# Altium footprint library MiniSquidCtrl.PcbLib: 41 footprints (part 3 of 3)
Each footprint in its own frame and in the unit in brackets; x right, y up, seen from the top. Pads: shape width x height; smd on the part's side, far side on the other; paste and mask are expansions set on the pad; w line width, h text height; cw(c..) or ccw(c..) is an arc to the next point about the centre after c.
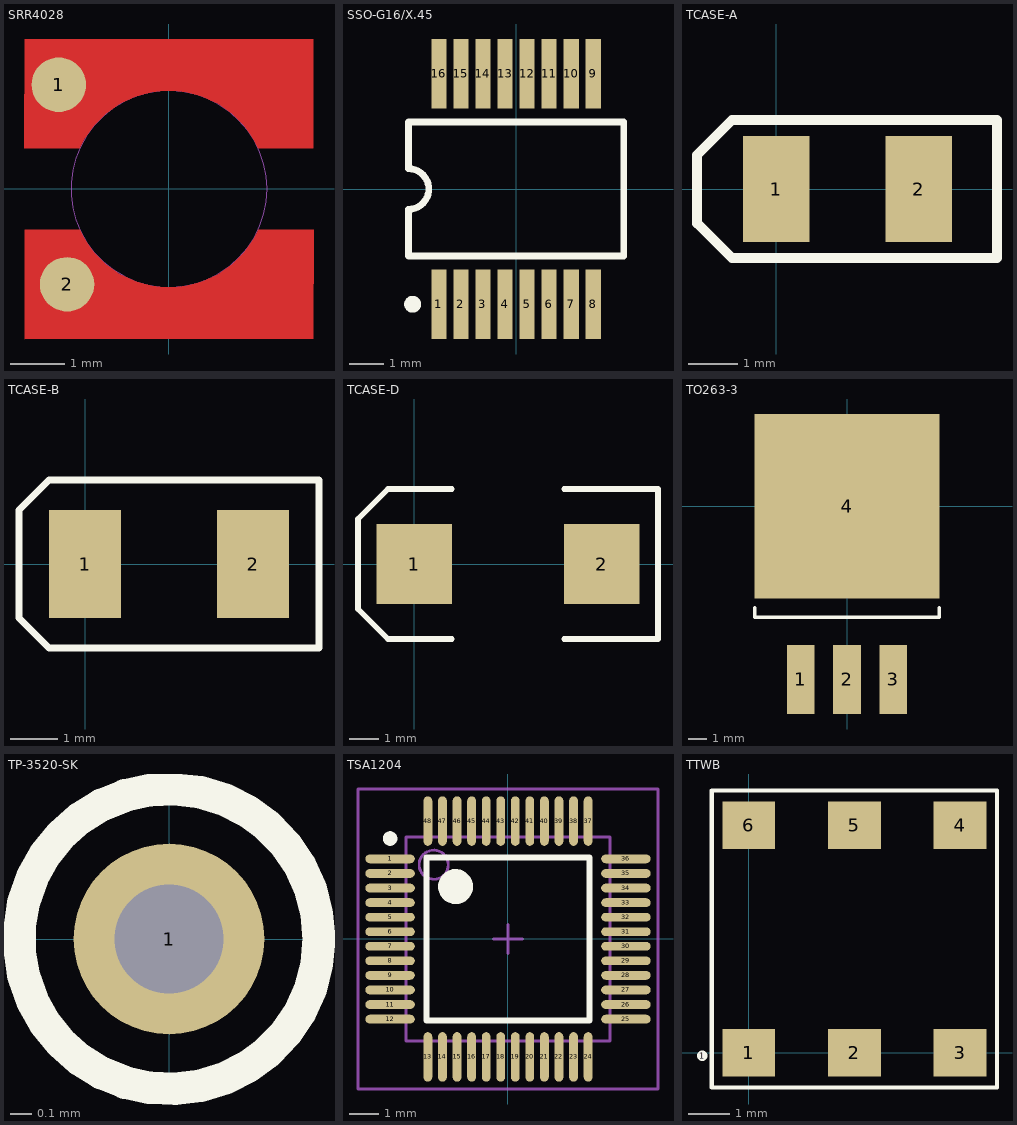
[diagram p2: the footprints below, top view; thin cyan lines are the x and y axes]

## SRR4028 [mm]
height 2.8
pads (2):
  round 1 smd: 1(-2.02,1.912) 2(-1.87,-1.749)
Top Layer:
  region: 1.8,-0.751 2.651,-0.751 2.65,-2.751 -2.649,-2.752 -2.648,-0.752 -1.8,-0.752 -1.636,-0.751 -1.558,-0.901 -1.474,-1.033 -1.378,-1.158 -1.273,-1.273 -1.157,-1.38 -1.032,-1.476 -0.901,-1.56 -0.76,-1.633 -0.616,-1.692 -0.465,-1.74 -0.312,-1.774 -0.157,-1.794 0.001,-1.801 0.157,-1.795 0.313,-1.773 0.466,-1.739 0.617,-1.692 0.761,-1.632 0.901,-1.56 1.033,-1.476 1.158,-1.38 1.273,-1.274 1.38,-1.158 1.475,-1.034 1.559,-0.901 1.632,-0.763 1.636,-0.751 1.801,-0.751
  region: -1.8,0.75 -2.65,0.75 -2.65,2.75 2.65,2.75 2.649,0.751 1.8,0.751 1.637,0.75 1.559,0.9 1.475,1.032 1.378,1.157 1.273,1.272 1.158,1.379 1.033,1.475 0.901,1.559 0.761,1.631 0.616,1.691 0.466,1.739 0.313,1.773 0.157,1.793 0,1.8 -0.156,1.793 -0.312,1.772 -0.466,1.738 -0.616,1.691 -0.761,1.631 -0.9,1.559 -1.033,1.474 -1.157,1.379 -1.273,1.273 -1.379,1.157 -1.475,1.033 -1.559,0.9 -1.631,0.762 -1.636,0.75 -1.8,0.75
Mechanical 3:
  circle w0.01: c0,0 r1.8

## SSO-G16/X.45 [mm]
pads (16):
  rect 0.45x2.05 smd: 1(-2.275,-3.4) 2(-1.625,-3.4) 3(-0.975,-3.4) 4(-0.325,-3.4) 5(0.325,-3.4) 6(0.975,-3.4) 7(1.625,-3.4) 8(2.275,-3.4) 9(2.275,3.4) 10(1.625,3.4) 11(0.975,3.4) 12(0.325,3.4) 13(-0.325,3.4) 14(-0.975,3.4) 15(-1.625,3.4) 16(-2.275,3.4)
Top Overlay:
  circle w0.25: c-3.05,-3.4 r0.125
  lines w0.2: -3.175,-0.625 -3.175,-1.975 3.175,-1.975 3.175,1.975 -3.175,1.975 -3.175,0.625 ; -3.175,-0.6 ccw(c-3.175,0) -3.175,0.6

## TCASE-A [mm]
pads (2):
  rect 1.35x2.15 smd: 1(0,0) 2(2.9,0)
Top Overlay:
  lines w0.2: -1.609,-0.7 -1.609,0.691 ; -1.6,-0.7 -0.9,-1.4 4.491,-1.4 4.491,1.4 -0.9,1.4 -1.6,0.7

## TCASE-B [mil]
pads (2):
  rect 60x90 smd: 1(0,0) 2(140,0)
Top Overlay:
  lines w6: -55,-45 -30,-70 195,-70 195,70 -30,70 -55,45 -55,-45

## TCASE-D [mm]
pads (2):
  rect 2.55x2.7 smd: 1(0,0) 2(6.35,0)
Top Overlay:
  lines w0.2: 1.27,-2.54 -0.889,-2.54 -1.905,-1.524 -1.905,1.524 -0.889,2.54 1.27,2.54 ; 5.08,-2.54 8.255,-2.54 8.255,2.54 5.08,2.54

## TO263-3 [mil]
pads (4):
  rect 60x150 smd: 1(-100,-375) 2(0,-375) 3(100,-375)
  rect 400x400 smd: 4(0,0)
Top Overlay:
  lines w7.87: -200,-220 -200,-240 200,-240 200,-220

## TP-3520-SK [mil]
pads (1):
  round 35 hole 20: 1(0,0)
Top Overlay:
  circle w6: c0,0 r27.5

## TSA1204 [mm] "TSQFP, 48-Leads, Body 9.1x9.1mm (max), Pitch 0.50mm, IPC Medium Density"
height 1.6
pads (48):
  oval 1.7x0.3 smd: 1(-4.05,2.75) 2(-4.05,2.25) 3(-4.05,1.75) 4(-4.05,1.25) 5(-4.05,0.75) 6(-4.05,0.25) 7(-4.05,-0.25) 8(-4.05,-0.75) 9(-4.05,-1.25) 10(-4.05,-1.75) 11(-4.05,-2.25) 12(-4.05,-2.75) 25(4.05,-2.75) 26(4.05,-2.25) 27(4.05,-1.75) 28(4.05,-1.25) 29(4.05,-0.75) 30(4.05,-0.25) 31(4.05,0.25) 32(4.05,0.75) 33(4.05,1.25) 34(4.05,1.75) 35(4.05,2.25) 36(4.05,2.75)
  oval 0.3x1.7 smd: 13(-2.75,-4.05) 14(-2.25,-4.05) 15(-1.75,-4.05) 16(-1.25,-4.05) 17(-0.75,-4.05) 18(-0.25,-4.05) 19(0.25,-4.05) 20(0.75,-4.05) 21(1.25,-4.05) 22(1.75,-4.05) 23(2.25,-4.05) 24(2.75,-4.05) 37(2.75,4.05) 38(2.25,4.05) 39(1.75,4.05) 40(1.25,4.05) 41(0.75,4.05) 42(0.25,4.05) 43(-0.25,4.05) 44(-0.75,4.05) 45(-1.25,4.05) 46(-1.75,4.05) 47(-2.25,4.05) 48(-2.75,4.05)
Top Overlay:
  circle w0.25: c-4.05,3.45 r0.125
  circle w0.6: c-1.8,1.8 r0.3
  lines w0.2: -2.8,-2.8 -2.8,2.8 2.8,2.8 2.8,-2.8 -2.8,-2.8
Mechanical 13:
  circle w0.1: c-2.55,2.55 r0.5
  lines w0.1: -3.5,-3.5 -3.5,3.5 3.5,3.5 3.5,-3.5 -3.5,-3.5
Mechanical 15:
  lines w0.1: -0.5,0 0.5,0 ; 0,-0.5 0,0.5 ; -5.15,-5.15 -5.15,5.15 5.15,5.15 5.15,-5.15 -5.15,-5.15
3D body: height 1.6, standoff 0.25, extent -3.5,-3.5 3.5,3.5

## TTWB [mil] "Transformer"
height 185.04
pads (7):
  round 10 on Top Overlay: 1(-44,-3)
  rect 50x44.88 smd: 1(0,0) 2(100,0) 3(200,0) 4(200,215) 5(100,215) 6(0,215)
Top Overlay:
  lines w4: -35,-33 -35,248 235,248 235,-33 -35,-33